# Altium footprint library MJ1-2533-SMT.PcbLib: 1 footprints
Each footprint in its own frame and in the unit in brackets; x right, y up, seen from the top. Pads: shape width x height; smd on the part's side, far side on the other; paste and mask are expansions set on the pad; w line width, h text height; cw(c..) or ccw(c..) is an arc to the next point about the centre after c.
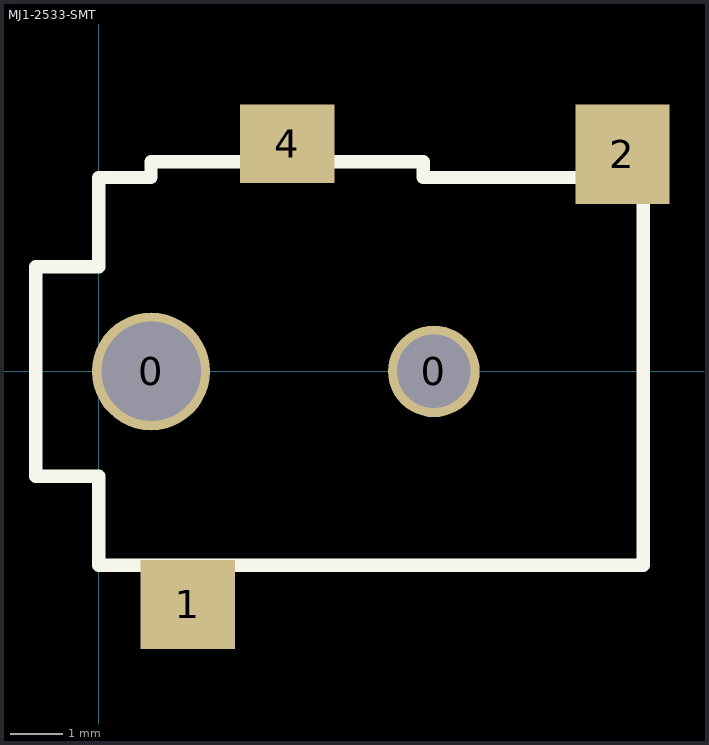
[diagram p0: the footprint, top view; thin cyan lines are the x and y axes]

## MJ1-2533-SMT [mm] "2.5mm mono audio jack"
height 3
pads (5):
  round 2.25 hole 1.9: 0(1,0)
  round 1.75 hole 1.4: 0(6.4,0)
  rect 1.8x1.7 smd: 1(1.7,-4.45)
  rect 1.8x1.9 smd: 2(10,4.15)
  rect 1.8x1.5 smd: 4(3.6,4.35)
Top Overlay:
  lines w0.254: -1.2,-2 -1.2,2 0,2 0,3.7 1,3.7 1,4 6.2,4 6.2,3.7 10.4,3.7 10.4,-3.7 0,-3.7 0,-2 -1.2,-2
3D body: height 3, standoff 0, extent -1.199,-3.699 10.399,3.999